# Altium schematic symbol library Connectors.SchLib: 2 symbols
Pins are listed as number, name and electrical type; pins without a type are passive.

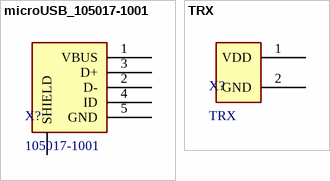
[diagram p0: symbols microUSB_105017-1001 to TRX]

## microUSB_105017-1001
designator X?, comment 105017-1001
Supplier 1: Digi-Key; Supplier Part Number 1: WM1399CT-ND
footprint 1050170001 (micro USB B)
pins: 1 VBUS, 2 D-, 3 D+, 4 ID, 5 GND, SH1 SHIELD

## TRX
designator X?
pins: 1 VDD (power), 2 GND (power)